# Altium schematic symbol library IC.SchLib: 89 symbols
Pins are listed as number, name and electrical type; pins without a type are passive.

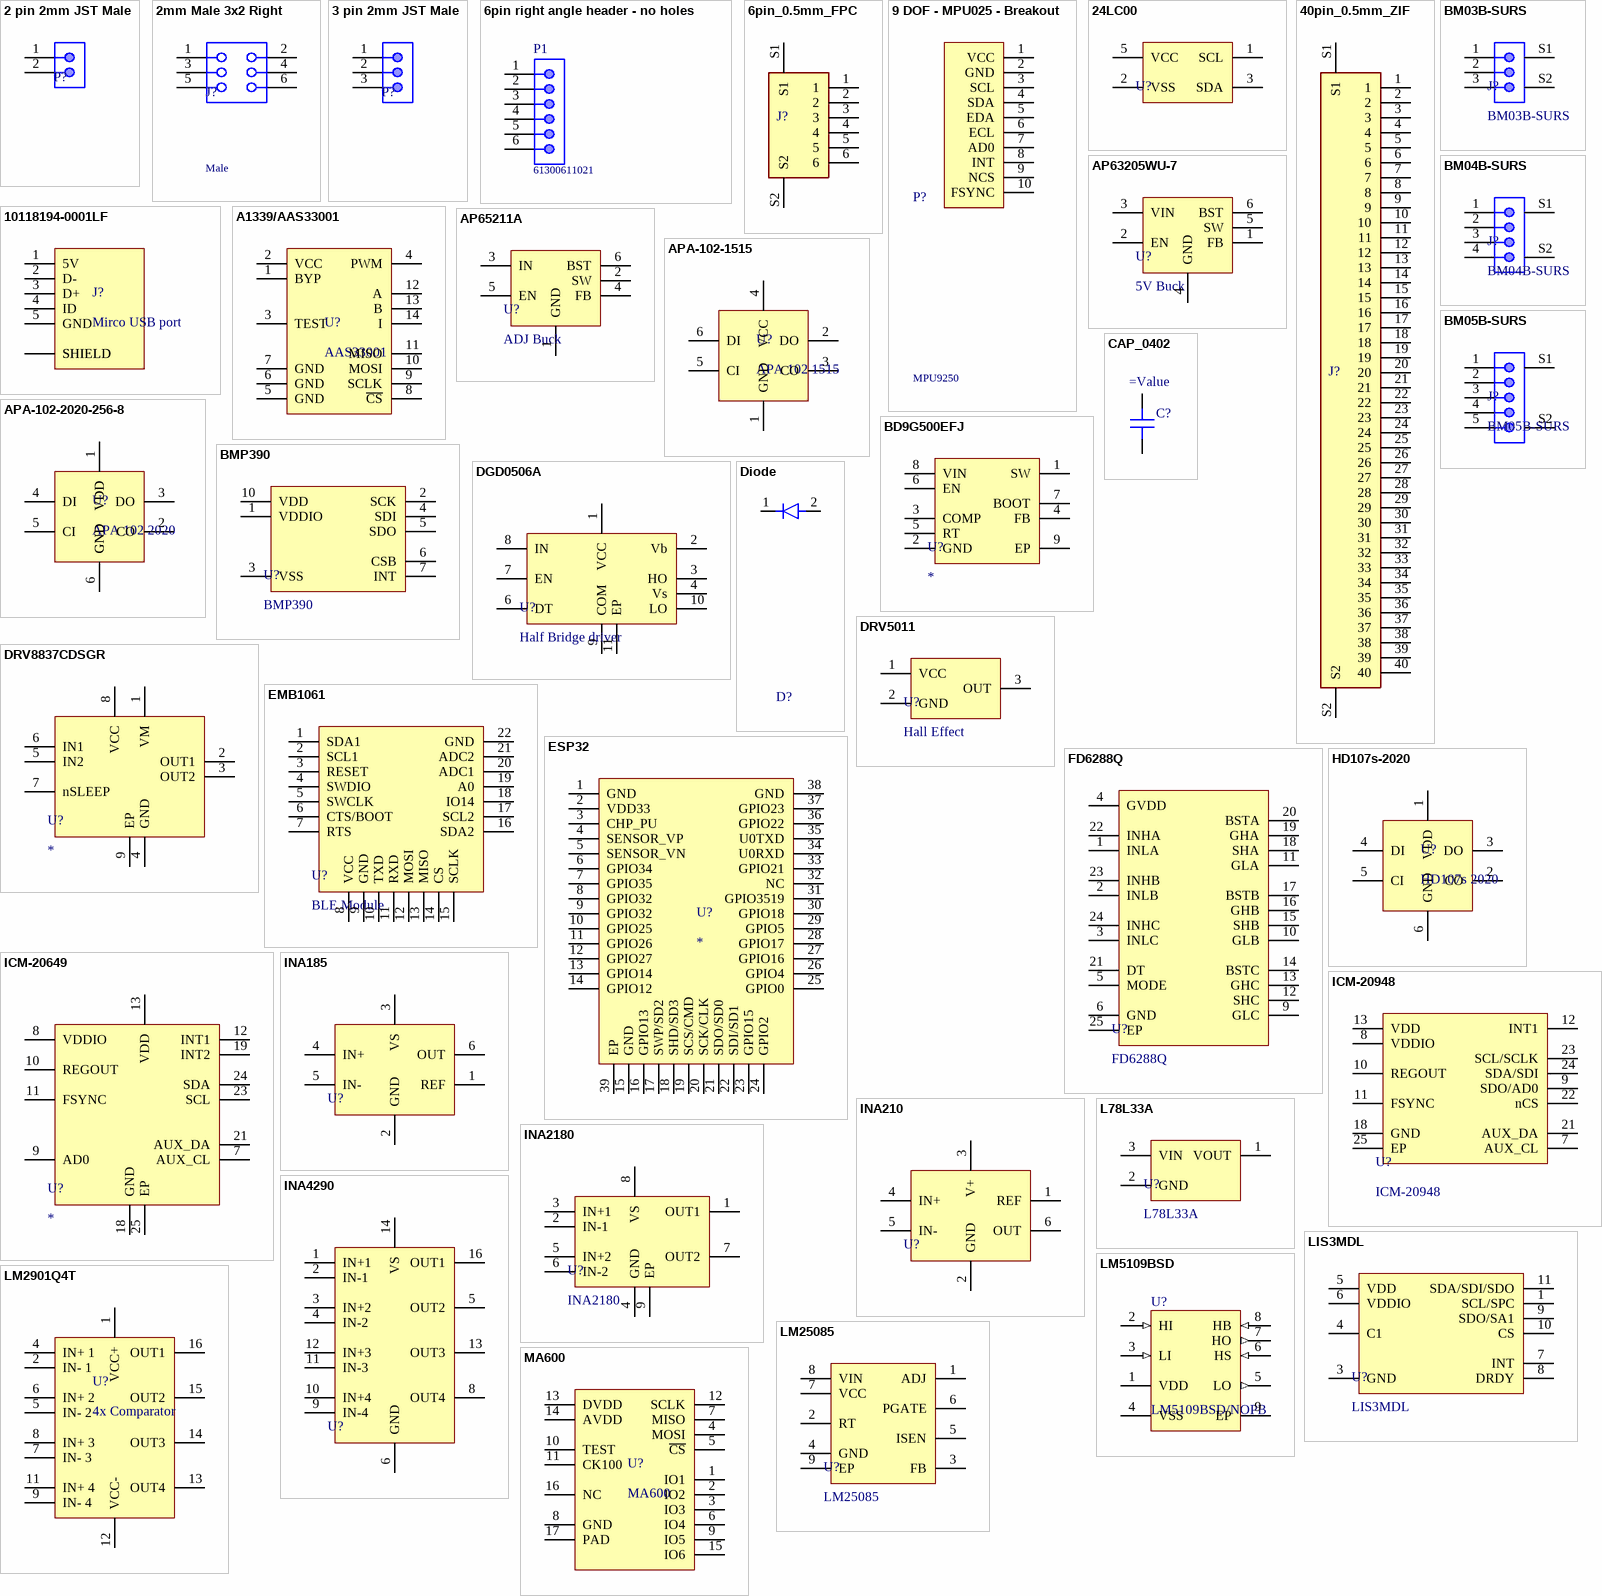
[diagram p0: symbols 2 pin 2mm JST Male to MA600]

## 2 pin 2mm JST Male
designator P?
2 Pin - 2mm header - clip
footprint 2pin - 2mm JST male
pins: 1, 2

## 2mm Male 3x2 Right
designator J?, comment Male
2mm Male 3x2 Right; Manufacturer Part Number: 62000621821; Manufacturer: Wurth Elektronik; Pin Number: 6; Gender: Socket Header; Rated Current: 2A; Working Voltage: 250VAC; Withstanding Voltage: 500VAC; Contact Resistance: 20mOhm; Row Number: Dual; ComponentLink1Description: Manufacturer; ComponentLink1URL: http://www.we-online.de; ComponentLink2Description: Datasheet; ComponentLink2URL: https://www.we-online.com/catalog/datasheet/62000621821.pdf; Published Date: May 2020; Pitch: 2mm; Operating Temperature: -40 to +105degC; Mounting Technology: THT; Packaging: Tube; Orientation: Vertical
footprint 2mm 3x2 Male Right (Socket Header, Pitch 2.00 mm, THT, Vertical, dual row, 6p)
pins: 1, 2, 3, 4, 5, 6

## 3 pin 2mm JST Male
designator P?
2 Pin - 3mm header - clip
footprint 3pin - 2mm header
pins: 1, 2, 3

## 6pin right angle header - no holes
designator P1, comment 61300611021
WR-PHD Pin Header, THT, pitch 2.54mm, Single Row, Angled, 6p; Manufacturer: Wurth Elektronik; Pin Number: 6; Rated Current: 3A; Working Voltage: 250VAC; Withstanding Voltage: 500VAC; Contact Resistance: 20mOhm; ComponentLink1Description: Manufacturer; ComponentLink1URL: http://www.we-online.de; ComponentLink2Description: Datasheet; ComponentLink2URL: https://www.we-online.com/catalog/datasheet/61300611021.pdf; Manufacturer Part Number: 61300611021; Published Date: May 2020; Pitch: 2.54mm; Operating Temperature: -40 to +105degC; Mounting Technology: THT; Packaging: Bag; Gender: Pin Header; Row Number: Single; Orientation: Angled
footprint 61300611021 (Pin Header, pitch 2.54 mm, THT, Angled, single row, 6p)
pins: 1, 2, 3, 4, 5, 6

## 6pin_0.5mm_FPC
designator J?
6 Position FFC, FPC Connector Contacts, Top 0.020 _0.50mm_ Surface Mount, Right Angle; MP: FH12A-40S-0.5SH_55_; MF: Hirose; Price: None; SnapEDA_Link: https://www.snapeda.com/parts/FH12A-40S-0.5SH%2855%29/Hirose%20Electric%20Co%20Ltd/view-part/447132/?ref=snap; Package: None; Availability: Unavailable; Value: *
footprint 6pin_0.5mmPitch
pins: 1, 2, 3, 4, 5, 6, S1, S2

## 9 DOF - MPU025 - Breakout
designator P?, comment MPU9250
9 DOF - MPU025- Breakout; Manufacturer Part Number: 61301011121; Manufacturer: Wurth Elektronik; Pin Number: 10; Pitch: 2.54mm; Gender: Pin Header; Rated Current: 3A; Working Voltage: 250VAC; Withstanding Voltage: 500VAC; Contact Resistance: 20mOhm; Row Number: Single; ComponentLink1Description: Manufacturer; ComponentLink1URL: http://www.we-online.de; ComponentLink2Description: Datasheet; ComponentLink2URL: https://www.we-online.com/catalog/datasheet/61301011121.pdf; Published Date: May 2020; Operating Temperature: -40 to +105degC; Mounting Technology: THT; Packaging: Bag; Orientation: Vertical
footprint MPU 9150 - 10 pin 0.1" (Pin Header, pitch 2.54 mm, THT, Vertical, single row, 10p)
pins: 1 VCC, 2 GND, 3 SCL, 4 SDA, 5 EDA, 6 ECL, 7 AD0, 8 INT, 9 NCS, 10 FSYNC

## 24LC00
designator U?
EEPROM
footprint SOT-23-5
pins: 1 SCL, 2 VSS, 3 SDA, 5 VCC

## 40pin_0.5mm_ZIF
designator J?
40 Position FFC, FPC Connector Contacts, Top 0.020 _0.50mm_ Surface Mount, Right Angle; MP: FH12A-40S-0.5SH_55_; MF: Hirose; Price: None; SnapEDA_Link: https://www.snapeda.com/parts/FH12A-40S-0.5SH%2855%29/Hirose%20Electric%20Co%20Ltd/view-part/447132/?ref=snap; Package: None; Availability: Unavailable; Value: *
footprint 40pin_0.5mmPitch
pins: 1, 2, 3, 4, 5, 6, 7, 8, 9, 10, 11, 12, 13, 14, 15, 16, 17, 18, 19, 20, 21, 22, 23, 24, 25, 26, 27, 28, 29, 30, 31, 32, 33, 34, 35, 36, 37, 38, 39, 40, S1, S2

## 10118194-0001LF
designator J?, comment Mirco USB port
USB - micro B USB 2.0 Receptacle Connector 5 Position Surface Mount, Right Angle; Through Hole; MF: Amphenol ICC; MP: 10118194-0001LF; Package: None; Price: None; Availability: Unavailable; SnapEDA_Link: https://www.snapeda.com/parts/10118194-0001LF/Amphenol%20FCI/view-part/1413308/?ref=snap; Value: *
footprint AMPHENOL_10118194-0001LF
pins: 1 5V, 2 D-, 3 D+, 4 ID, 5 GND, S1 SHIELD, S2 SHIELD, S3 SHIELD, S4 SHIELD, S5 SHIELD, S6 SHIELD

## A1339/AAS33001
designator U?, comment AAS33001
Hall effect encoder
footprint TSSOP14
pins: 1 BYP, 2 VCC, 3 TEST, 4 PWM, 5 GND, 6 GND, 7 GND, 8 ~{CS}, 9 SCLK, 10 MOSI, 11 MISO, 12 A, 13 B, 14 I

## AP63205WU-7
designator U?, comment 5V Buck
5V fixed step down Buck
footprint TSOT-26-6 - 3.2mm
pins: 1 FB, 2 EN, 3 VIN, 4 GND, 5 SW, 6 BST

## AP65211A
designator U?, comment ADJ Buck
ADJ step down Buck
footprint TSOT-26-6
pins: 1 GND, 2 SW, 3 IN, 4 FB, 5 EN, 6 BST

## APA-102-1515
designator U?, comment APA 102 1515
8-pin type LED three-color RGB Dimming control; MP: APA-102-2020-256-8; MF: iPixel LED Light Co.; Value: *; SnapEDA_Link: https://www.snapeda.com/parts/APA-102-2020-256-8/iPixel%20LED%20Light%20Co./view-part/698331/?ref=snap; Availability: Unavailable; Package: SMD-8 iPixel LED Light Co.; Price: None
footprint LED_APA-102-1515
pins: 1 GND, 2 DO, 3 CO, 4 VCC, 5 CI, 6 DI

## APA-102-2020-256-8
designator U?, comment APA 102 2020
8-pin type LED three-color RGB Dimming control; MP: APA-102-2020-256-8; MF: iPixel LED Light Co.; Value: *; SnapEDA_Link: https://www.snapeda.com/parts/APA-102-2020-256-8/iPixel%20LED%20Light%20Co./view-part/698331/?ref=snap; Availability: Unavailable; Package: SMD-8 iPixel LED Light Co.; Price: None
footprint LED_APA-102-2020-256-8
pins: 1 VDD (power), 2 CO, 3 DO, 4 DI, 5 CI, 6 GND (power), 7 GND (power), 8 VDD (power)

## BD9G500EFJ
designator U?
Buck Adj, 5A
footprint SOP127P600X100-9N
pins: 1 SW, 2 GND, 3 COMP, 4 FB, 5 RT, 6 EN, 7 BOOT, 8 VIN, 9 EP

## BM03B-SURS
designator J?
3 pos 0.8mm
footprint BM03B-SURS
pins: 1, 2, 3 1, S1 1, S2 2

## BM04B-SURS
designator J?
4 pos 0.8mm
footprint BM04B-SURS
pins: 1, 2, 3 1, 4 2, S1 1, S2 2

## BM05B-SURS
designator J?
5 pos 0.8mm
footprint BM05B-SURS
pins: 1, 2, 3 1, 4 2, 5 2, S1 1, S2 2

## BMP390
designator U?
Altimeter
footprint BMP390L
pins: 1 VDDIO, 2 SCK, 3 VSS, 4 SDI, 5 SDO, 6 CSB, 7 INT, 8 VSS, 9 VSS, 10 VDD

## CAP_0402
designator C?
CAP CER 402
footprint CAP_0402
pins: 1, 2

## DGD0506A
designator U?, comment Half Bridge driver
Half Bridge driver - N FET
footprint 10-WDFN3030
pins: 1 VCC, 2 Vb, 3 HO, 4 Vs, 6 DT, 7 EN, 8 IN, 9 COM, 10 LO, 11 EP

## Diode
designator D?
DFN1608D-2 (SOD1608); Manufacturer: Cree; ComponentLink2Description: Datasheet; Temperature: -40°C to +100°C; Package: LED_3MM2X2MM8; Supplier 2: Mouser; Price: 0.203999996142; Supplier 1: Digi-Key; ComponentLink1URL: https://upverter.com/upn/revision/9d0b31f7b1982705/; Supplier Part Number 2: 941-CLV1LFKBC7673673; Supplier Part Number 1: CLV1L-FKB-CHMMQEHBB7673673-ND; ComponentLink1Description: Upverter; ComponentLink2URL: http://www.cree.com/~/media/Files/Cree/LED-Components-and-Modules/HB/Data-Sheets/CLV1L-FKB-1238.pdf; RoHS: TRUE; Mouser Part Number: 941-CLV1LFKBC7673673; Temperature Range High: +100°C; Digikey Description: DIODE LED RGB DIFFUSED 4LCC SMD; Digikey Part Number: CLV1L-FKB-CHMMQEHBB7673673-ND; Lead Free: yes; Temperature Range Low: -40°C
footprint Diode DFN1608D-2 (SOD1608)
pins: 1 A, 2 BLUE(C)

## DRV5011
designator U?, comment Hall Effect
Hall Effect Sensor - Bipolar
footprint DRV5011ADLPG
pins: 1 VCC, 2 GND, 3 OUT

## DRV8837CDSGR
designator U?
11-V, 1-A H-bridge motor driver 8-WSON -40 to 85; MF: Texas Instruments; MP: DRV8837CDSGR; Mouser-Purchase-URL: https://snapeda.com/shop?store=Mouser&id=617854; Value: *; DigiKey-Purchase-URL: https://snapeda.com/shop?store=DigiKey&id=617854; Package: WSON-8 Texas Instruments; Texas_Instruments-Purchase-URL: https://snapeda.com/shop?store=Texas+Instruments&id=617854; Price: None; SnapEDA_Link: https://www.snapeda.com/parts/DRV8837CDSGR/Texas%20Instruments/view-part/617854/?ref=snap; Availability: Good
footprint SON50P200X200X80-9N
pins: 1 VM, 2 OUT1, 3 OUT2, 4 GND, 5 IN2, 6 IN1, 7 nSLEEP, 8 VCC, 9 EP

## EMB1061
designator U?, comment BLE Module
EMB1061 - BLE module
footprint EMB1061 -SMT
pins: 1 SDA1, 2 SCL1, 3 RESET, 4 SWDIO, 5 SWCLK, 6 CTS/BOOT, 7 RTS, 8 VCC, 9 GND, 10 TXD, 11 RXD, 12 MOSI, 13 MISO, 14 CS, 15 SCLK, 16 SDA2, 17 SCL2, 18 IO14, 19 A0, 20 ADC1, 21 ADC2, 22 GND

## ESP32
designator U?
ESP32
footprint Espressif ESP32-WROOM-32 (39-SMD Module)
pins: 1 GND, 2 VDD33, 3 CHP_PU, 4 SENSOR_VP, 5 SENSOR_VN, 6 GPIO34, 7 GPIO35, 8 GPIO32, 9 GPIO32, 10 GPIO25, 11 GPIO26, 12 GPIO27, 13 GPIO14, 14 GPIO12, 15 GND, 16 GPIO13, 17 SWP/SD2, 18 SHD/SD3, 19 SCS/CMD, 20 SCK/CLK, 21 SDO/SD0, 22 SDI/SD1, 23 GPIO15, 24 GPIO2, 25 GPIO0, 26 GPIO4, 27 GPIO16, 28 GPIO17, 29 GPIO5, 30 GPIO18, 31 GPIO3519, 32 NC, 33 GPIO21, 34 U0RXD, 35 U0TXD, 36 GPIO22, 37 GPIO23, 38 GND, 39 EP

## FD6288Q
designator U?
3 Phase Gate Driver 1.5-2.2A; MF: Texas Instruments; MP: UCC27282DRCR; Texas_Instruments-Purchase-URL: https://snapeda.com/shop?store=Texas+Instruments&id=3625400; Price: None; Availability: Warning; Package: VSON-10 Texas Instruments; SnapEDA_Link: https://www.snapeda.com/parts/UCC27282DRCR/Texas%20Instruments/view-part/3625400/?ref=snap; DigiKey-Purchase-URL: https://snapeda.com/shop?store=DigiKey&id=3625400; Value: *
footprint QFN50P400X400X100-25N
pins: 1 INLA, 2 INLB, 3 INLC, 4 GVDD, 5 MODE, 6 GND, 9 GLC, 10 GLB, 11 GLA, 12 SHC, 13 GHC, 14 BSTC, 15 SHB, 16 GHB, 17 BSTB, 18 SHA, 19 GHA, 20 BSTA, 21 DT, 22 INHA, 23 INHB, 24 INHC, 25 EP

## HD107s-2020
designator U?, comment HD107s 2020
8-pin type LED three-color RGB Dimming control; MP: APA-102-2020-256-8; MF: iPixel LED Light Co.; Value: *; SnapEDA_Link: https://www.snapeda.com/parts/APA-102-2020-256-8/iPixel%20LED%20Light%20Co./view-part/698331/?ref=snap; Availability: Unavailable; Package: SMD-8 iPixel LED Light Co.; Price: None
footprint LED_HD107s-2020
pins: 1 VDD (power), 2 CO, 3 DO, 4 DI, 5 CI, 6 GND (power)

## ICM-20649
designator U?
6-DOF IMU
footprint ICM-20649
pins: 7 AUX_CL, 8 VDDIO, 9 AD0, 10 REGOUT, 11 FSYNC, 12 INT1, 13 VDD, 18 GND, 19 INT2, 20 RESV, 21 AUX_DA, 23 SCL, 24 SDA, 25 EP

## ICM-20948
designator U?
9-DOF IMU
footprint ICM-20948
pins: 7 AUX_CL, 8 VDDIO, 9 SDO/AD0, 10 REGOUT, 11 FSYNC, 12 INT1, 13 VDD, 18 GND, 20 GND, 21 AUX_DA, 22 nCS, 23 SCL/SCLK, 24 SDA/SDI, 25 EP

## INA185
designator U?
INA185A2
footprint TI SC70-6 DCK (SC70, 6-Leads, Body 2.00x2.10mm, Pitch 0.65mm, IPC Medium Density)
pins: 1 REF, 2 GND, 3 VS, 4 IN+, 5 IN-, 6 OUT

## INA210
designator U?
Current sense amplifier
footprint TI SC70-6 DCK (SC70, 6-Leads, Body 2.00x2.10mm, Pitch 0.65mm, IPC Medium Density)
pins: 1 REF, 2 GND, 3 V+, 4 IN+, 5 IN-, 6 OUT

## INA2180
designator U?
Current sense amplifier 2 channel
footprint SON50P200X200X80-9N
pins: 1 OUT1, 2 IN-1, 3 IN+1, 4 GND, 5 IN+2, 6 IN-2, 7 OUT2, 8 VS, 9 EP

## INA4290
designator U?
Current sense amplifier 4 channel
footprint VQFN50P300X300X100-16N
pins: 1 IN+1, 2 IN-1, 3 IN+2, 4 IN-2, 5 OUT2, 6 GND, 7 GND, 8 OUT4, 9 IN-4, 10 IN+4, 11 IN-3, 12 IN+3, 13 OUT3, 14 VS, 15 VS, 16 OUT1

## L78L33A
designator U?
3.3V LDO
footprint SOT-89-3
pins: 1 VOUT "Desc1", 2 GND "Desc1", 3 VIN "Desc1"

## LIS3MDL
designator U?
Magnetometer
footprint LGA12_ST
pins: 1 SCL/SPC, 2 Reserved, 3 GND, 4 C1, 5 VDD, 6 VDDIO, 7 INT, 8 DRDY, 9 SDO/SA1, 10 CS, 11 SDA/SDI/SDO, 12 Reserved

## LM2901Q4T
designator U?, comment 4x Comparator
Comparator General Purpose CMOS, DTL, MOS, Open-Collector, TTL 16-QFN (3x3)
footprint QFN50P300X300X100-16N
pins: 1 VCC+, 2 IN- 1, 4 IN+ 1, 5 IN- 2, 6 IN+ 2, 7 IN- 3, 8 IN+ 3, 9 IN- 4, 11 IN+ 4, 12 VCC-, 13 OUT4, 14 OUT3, 15 OUT2, 16 OUT1

## LM5109BSD
designator U?, comment LM5109BSD/NOPB
High Voltage 1A Peak Half-Bridge Gate Driver, 8-pin LLP, Pb-Free; Manufacturer: Texas Instruments; PackageTopMarking: NS*UZXYTT*5109BSD; CompType: MiscPower; PowerWise: N; PackageDescription: LLP, Plastic, Dual, 4 x 4 x 0.8mm Body, 8 Lead, 0.8mm Pitch, No Pullback; PinCount: 8; RoHS: Y; PackageReference: NGT0008A; ComponentLink1URL: http://www.ti.com/general/docs/lit/getliterature.tsp?genericPartNumber=LM5109B&fileType=pdf; ComponentLink1Description: Datasheet URL
footprint 8-WDFN
pins: 1 VDD (power), 2 HI (in), 3 LI (in), 4 VSS (power), 5 LO (out), 6 HS (in), 7 HO (out), 8 HB (in), 9 EP (power)

## LM25085
designator U?
PFET Buck Controller
footprint 8-WSON_3x3_0.5mm
pins: 1 ADJ, 2 RT, 3 FB, 4 GND, 5 ISEN, 6 PGATE, 7 VCC, 8 VIN, 9 EP

## MA600
designator U?
Hall effect encoder
footprint IC_MA702GQ-Z
pins: 1 IO1, 2 IO2, 3 IO3, 4 MOSI, 5 ~{CS}, 6 IO4, 7 MISO, 8 GND, 9 IO5, 10 TEST, 11 CK100, 12 SCLK, 13 DVDD, 14 AVDD, 15 IO6, 16 NC, 17 PAD

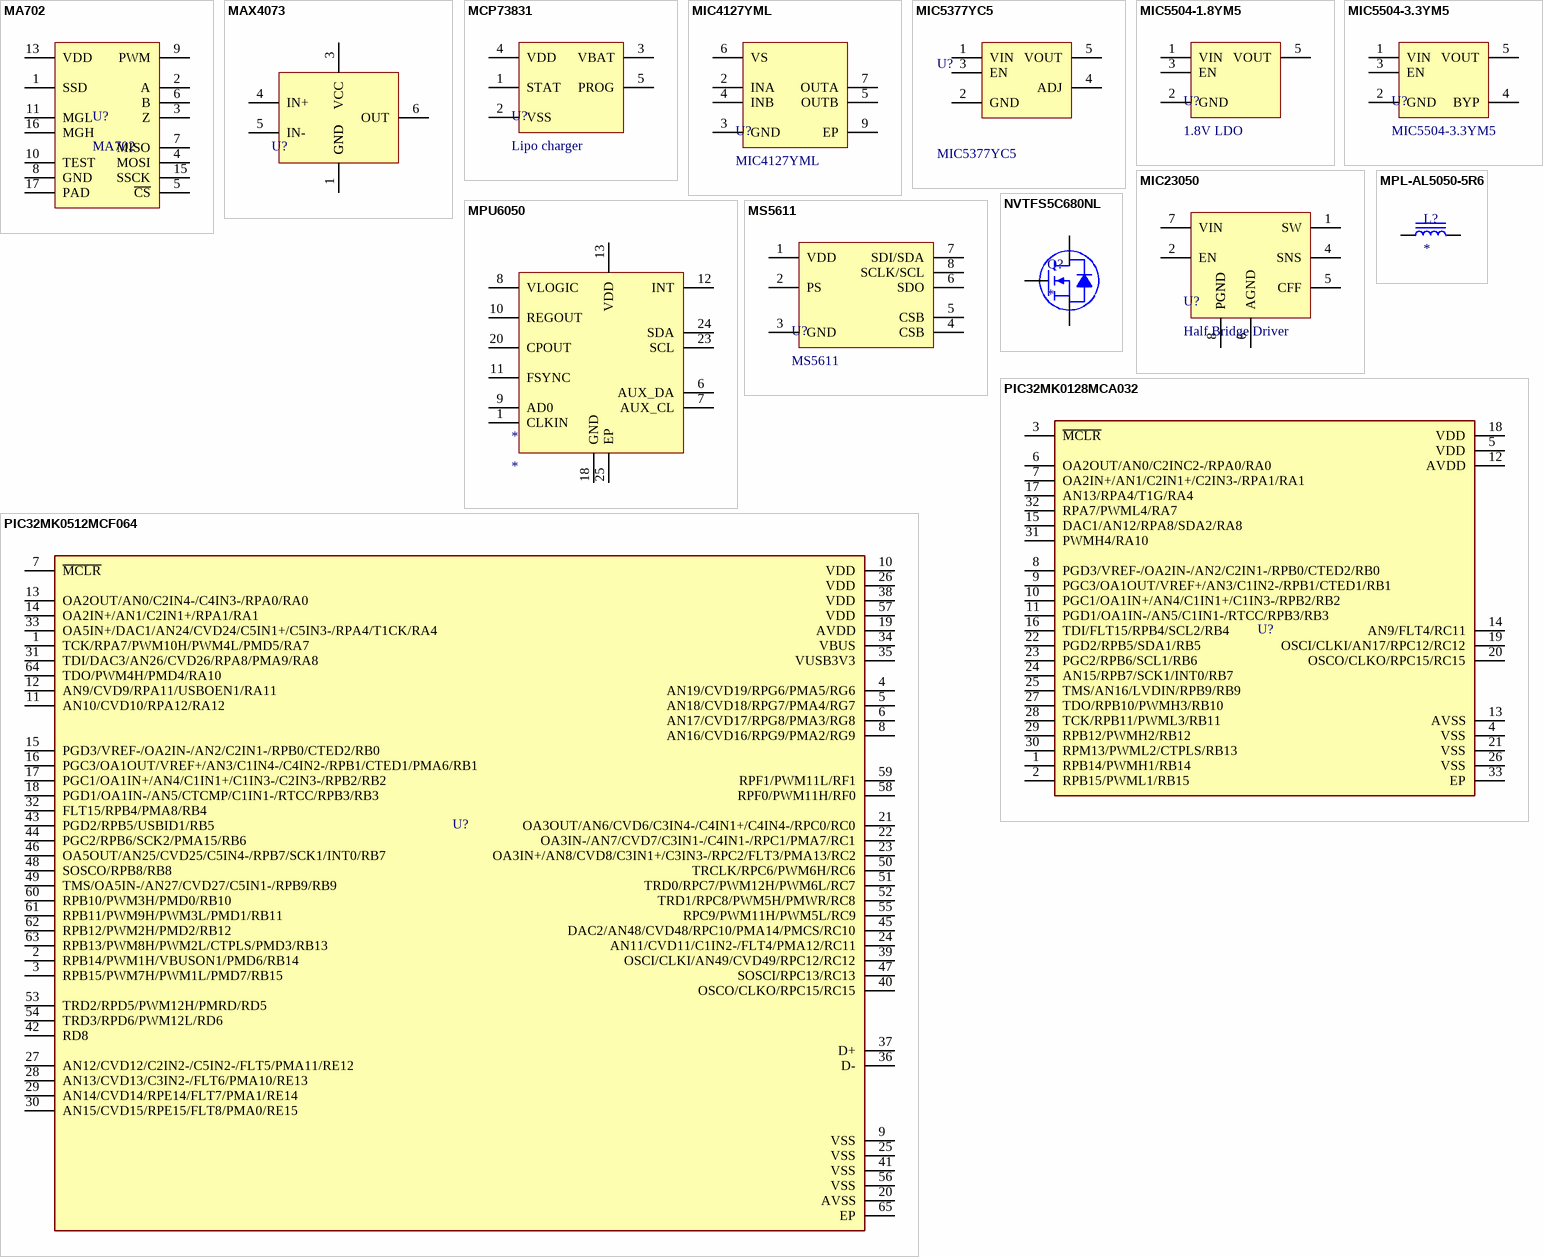
[diagram p1: symbols MA702 to PIC32MK0512MCF064]

## MA702
designator U?
Hall effect encoder
footprint IC_MA702GQ-Z
pins: 1 SSD, 2 A, 3 Z, 4 MOSI, 5 ~{CS}, 6 B, 7 MISO, 8 GND, 9 PWM, 10 TEST, 11 MGL, 13 VDD, 15 SSCK, 16 MGH, 17 PAD

## MAX4073
designator U?
Current sense amplifier
footprint TI SC70-6 DCK (SC70, 6-Leads, Body 2.00x2.10mm, Pitch 0.65mm, IPC Medium Density)
pins: 1 GND, 2 GND, 3 VCC, 4 IN+, 5 IN-, 6 OUT

## MCP73831
designator U?, comment Lipo charger
footprint TI SOT-23-5 DBV (SOT23, 5-Leads, Body 2.90x2.80mm, Pitch 0.95mm, IPC Medium Density)
pins: 1 STAT, 2 VSS, 3 VBAT, 4 VDD, 5 PROG

## MIC4127YML
designator U?
Low side Gate Driver 2x
footprint VDFN-8 3x3x0.9
pins: 2 INA, 3 GND, 4 INB, 5 OUTB, 6 VS, 7 OUTA, 9 EP

## MIC5377YC5
designator U?
IC REG LIN POS ADJ 150MA SOT23-5; Manufacturer: Texas Instruments; Control Features: Enable; Current - Quiescent (Iq): 100µA; Current - Supply (Max): 140µA; Number of Regulators: 1; Output Configuration: Positive; Output Type: Adjustable; Protection Features: Over Current, Over Temperature, Reverse Polarity; PSRR: 60dB (1kHz); Voltage - Input (Max): 10V; Voltage - Output (Max): 6.5V; Voltage - Output (Min/Fixed): 1.5V; Part Number: MIC5377YC5; ComponentLink1Description: Datasheet; ComponentLink1URL: http://www.ti.com/general/docs/suppproductinfo.tsp?distId=10&gotoUrl=http%3A%2F%2Fwww.ti.com%2Flit%2Fgpn%2Ftps763; ComponentLink2Description: DigiKey Link; ComponentLink2URL: http://digikey.com/product-detail/en/texas-instruments/TPS76301DBVR/296-11014-1-ND/477331; Current - Output: 150mA; Device Package: SC-74A, SOT-753; LastUpdated: 18-Jan-20 8:02:45 PM; Lifecycle Status: Active; Minimum Order: 1; Mounting Type: Surface Mount; Operating Temperature: -40°C ~ 125°C; Package / Case: SC-74A, SOT-753; Packaging: TapeAndReel; Part Status: Active; Price: 0.33; Series: -; Supplier 1: DigiKey; Supplier Part Number 1: 296-11014-1-ND; Supplier Device Package: SOT-23-5
footprint TI SOT-23-5 DBV
footprint 5 pin SC-70
pins: 1 VIN "Desc1", 2 GND "Desc1", 3 EN "Desc1", 4 ADJ "Desc1", 5 VOUT "Desc1"

## MIC5504-1.8YM5
designator U?, comment 1.8V LDO
footprint TI SOT-23-5 DBV (SOT23, 5-Leads, Body 2.90x2.80mm, Pitch 0.95mm, IPC Medium Density)
pins: 1 VIN "Desc1", 2 GND "Desc1", 3 EN "Desc1", 5 VOUT "Desc1"

## MIC5504-3.3YM5
designator U?
3.3V LDO
footprint TI SOT-23-5 DBV (SOT23, 5-Leads, Body 2.90x2.80mm, Pitch 0.95mm, IPC Medium Density)
pins: 1 VIN "Desc1", 2 GND "Desc1", 3 EN "Desc1", 4 BYP "Desc1", 5 VOUT "Desc1"

## MIC23050
designator U?, comment Half Bridge Driver
footprint MLF-8 2x2mm
pins: 1 SW, 2 EN, 4 SNS, 5 CFF, 6 AGND, 7 VIN, 8 PGND, 9 PGND

## MPL-AL5050-5R6
designator L?
FIXED IND 5.6UH 6.8A 20 MOHM SMD; MF: Laird-Signal Integrity Products; MP: MGV05021R0M-10; SnapEDA_Link: https://www.snapeda.com/parts/MGV05021R0M-10/Laird/view-part/5881352/?ref=snap; Availability: In Stock; Purchase-URL: https://pricing.snapeda.com/search/part/MGV05021R0M-10/?ref=eda; Check_prices: https://www.snapeda.com/parts/MGV05021R0M-10/Laird/view-part/5881352/?ref=eda; Value: *; Package: Molded-2 Laird; Price: None
footprint MPL-AL5050-5R6
pins: 1, 2

## MPU6050
designator *
6-DOF IMU
footprint IC_MPU6050
pins: 1 CLKIN, 6 AUX_DA, 7 AUX_CL, 8 VLOGIC, 9 AD0, 10 REGOUT, 11 FSYNC, 12 INT, 13 VDD, 18 GND, 20 CPOUT, 23 SCL, 24 SDA, 25 EP

## MS5611
designator U?
Altimeter
footprint MS5611 - duplicate
pins: 1 VDD, 2 PS, 3 GND, 4 CSB, 5 CSB, 6 SDO, 7 SDI/SDA, 8 SCLK/SCL

## NVTFS5C680NL
designator Q?
N-FET
footprint NVTFS015N04CTAG
pins: 1 S, 2 S, 3 S, 4 G, 5 D, 6 D, 7 D, 8 D

## PIC32MK0128MCA032
designator U?
PIC32MK Microcontroller IC 32-Bit 120MHz 1MB _1M x 8_ FLASH 32-VQFN_5x5_; MP: PIC32MK1024MCF064-I/PT; MF: Microchip; Digi-Key_Purchase_URL: https://www.digikey.kr/product-detail/en/microchip-technology/PIC32MK1024MCF064-I-PT/PIC32MK1024MCF064-I-PT-ND/7164902?utm_source=snapeda&utm_medium=aggregator&utm_campaign=symbol; Package: TQFP-64 Microchip; Digi-Key_Part_Number: PIC32MK1024MCF064-I/PT-ND; Value: *; SnapEDA_Link: https://www.snapeda.com/parts/PIC32MK1024MCF064-I/PT/Microchip/view-part/876704/?ref=snap
footprint 32-QFN_5x5_PIC32
pins: 1 RPB14/PWMH1/RB14, 2 RPB15/PWML1/RB15, 3 ~{MCLR}, 4 VSS, 5 VDD, 6 OA2OUT/AN0/C2INC2-/RPA0/RA0, 7 OA2IN+/AN1/C2IN1+/C2IN3-/RPA1/RA1, 8 PGD3/VREF-/OA2IN-/AN2/C2IN1-/RPB0/CTED2/RB0, 9 PGC3/OA1OUT/VREF+/AN3/C1IN2-/RPB1/CTED1/RB1, 10 PGC1/OA1IN+/AN4/C1IN1+/C1IN3-/RPB2/RB2, 11 PGD1/OA1IN-/AN5/C1IN1-/RTCC/RPB3/RB3, 12 AVDD, 13 AVSS, 14 AN9/FLT4/RC11, 15 DAC1/AN12/RPA8/SDA2/RA8, 16 TDI/FLT15/RPB4/SCL2/RB4, 17 AN13/RPA4/T1G/RA4, 18 VDD, 19 OSCI/CLKI/AN17/RPC12/RC12, 20 OSCO/CLKO/RPC15/RC15, 21 VSS, 22 PGD2/RPB5/SDA1/RB5, 23 PGC2/RPB6/SCL1/RB6, 24 AN15/RPB7/SCK1/INT0/RB7, 25 TMS/AN16/LVDIN/RPB9/RB9, 26 VSS, 27 TDO/RPB10/PWMH3/RB10, 28 TCK/RPB11/PWML3/RB11, 29 RPB12/PWMH2/RB12, 30 RPM13/PWML2/CTPLS/RB13, 31 PWMH4/RA10, 32 RPA7/PWML4/RA7, 33 EP

## PIC32MK0512MCF064
designator U?
PIC32MK Microcontroller IC 32-Bit 120MHz 1MB _1M x 8_ FLASH 64-TQFP _10x10_; MP: PIC32MK1024MCF064-I/PT; MF: Microchip; Digi-Key_Purchase_URL: https://www.digikey.kr/product-detail/en/microchip-technology/PIC32MK1024MCF064-I-PT/PIC32MK1024MCF064-I-PT-ND/7164902?utm_source=snapeda&utm_medium=aggregator&utm_campaign=symbol; Package: TQFP-64 Microchip; Digi-Key_Part_Number: PIC32MK1024MCF064-I/PT-ND; Value: *; SnapEDA_Link: https://www.snapeda.com/parts/PIC32MK1024MCF064-I/PT/Microchip/view-part/876704/?ref=snap
footprint QFN50P900X900X100-65N
pins: 1 TCK/RPA7/PWM10H/PWM4L/PMD5/RA7, 2 RPB14/PWM1H/VBUSON1/PMD6/RB14, 3 RPB15/PWM7H/PWM1L/PMD7/RB15, 4 AN19/CVD19/RPG6/PMA5/RG6, 5 AN18/CVD18/RPG7/PMA4/RG7, 6 AN17/CVD17/RPG8/PMA3/RG8, 7 ~{MCLR}, 8 AN16/CVD16/RPG9/PMA2/RG9, 9 VSS, 10 VDD, 11 AN10/CVD10/RPA12/RA12, 12 AN9/CVD9/RPA11/USBOEN1/RA11, 13 OA2OUT/AN0/C2IN4-/C4IN3-/RPA0/RA0, 14 OA2IN+/AN1/C2IN1+/RPA1/RA1, 15 PGD3/VREF-/OA2IN-/AN2/C2IN1-/RPB0/CTED2/RB0, 16 PGC3/OA1OUT/VREF+/AN3/C1IN4-/C4IN2-/RPB1/CTED1/PMA6/RB1, 17 PGC1/OA1IN+/AN4/C1IN1+/C1IN3-/C2IN3-/RPB2/RB2, 18 PGD1/OA1IN-/AN5/CTCMP/C1IN1-/RTCC/RPB3/RB3, 19 AVDD, 20 AVSS, 21 OA3OUT/AN6/CVD6/C3IN4-/C4IN1+/C4IN4-/RPC0/RC0, 22 OA3IN-/AN7/CVD7/C3IN1-/C4IN1-/RPC1/PMA7/RC1, 23 OA3IN+/AN8/CVD8/C3IN1+/C3IN3-/RPC2/FLT3/PMA13/RC2, 24 AN11/CVD11/C1IN2-/FLT4/PMA12/RC11, 25 VSS, 26 VDD, 27 AN12/CVD12/C2IN2-/C5IN2-/FLT5/PMA11/RE12, 28 AN13/CVD13/C3IN2-/FLT6/PMA10/RE13, 29 AN14/CVD14/RPE14/FLT7/PMA1/RE14, 30 AN15/CVD15/RPE15/FLT8/PMA0/RE15, 31 TDI/DAC3/AN26/CVD26/RPA8/PMA9/RA8, 32 FLT15/RPB4/PMA8/RB4, 33 OA5IN+/DAC1/AN24/CVD24/C5IN1+/C5IN3-/RPA4/T1CK/RA4, 34 VBUS, 35 VUSB3V3, 36 D-, 37 D+, 38 VDD, 39 OSCI/CLKI/AN49/CVD49/RPC12/RC12, 40 OSCO/CLKO/RPC15/RC15, 41 VSS, 42 RD8, 43 PGD2/RPB5/USBID1/RB5, 44 PGC2/RPB6/SCK2/PMA15/RB6, 45 DAC2/AN48/CVD48/RPC10/PMA14/PMCS/RC10, 46 OA5OUT/AN25/CVD25/C5IN4-/RPB7/SCK1/INT0/RB7, 47 SOSCI/RPC13/RC13, 48 SOSCO/RPB8/RB8, 49 TMS/OA5IN-/AN27/CVD27/C5IN1-/RPB9/RB9, 50 TRCLK/RPC6/PWM6H/RC6, 51 TRD0/RPC7/PWM12H/PWM6L/RC7, 52 TRD1/RPC8/PWM5H/PMWR/RC8, 53 TRD2/RPD5/PWM12H/PMRD/RD5, 54 TRD3/RPD6/PWM12L/RD6, 55 RPC9/PWM11H/PWM5L/RC9, 56 VSS, 57 VDD, 58 RPF0/PWM11H/RF0, 59 RPF1/PWM11L/RF1, 60 RPB10/PWM3H/PMD0/RB10, 61 RPB11/PWM9H/PWM3L/PMD1/RB11, 62 RPB12/PWM2H/PMD2/RB12, 63 RPB13/PWM8H/PWM2L/CTPLS/PMD3/RB13, 64 TDO/PWM4H/PMD4/RA10, 65 EP

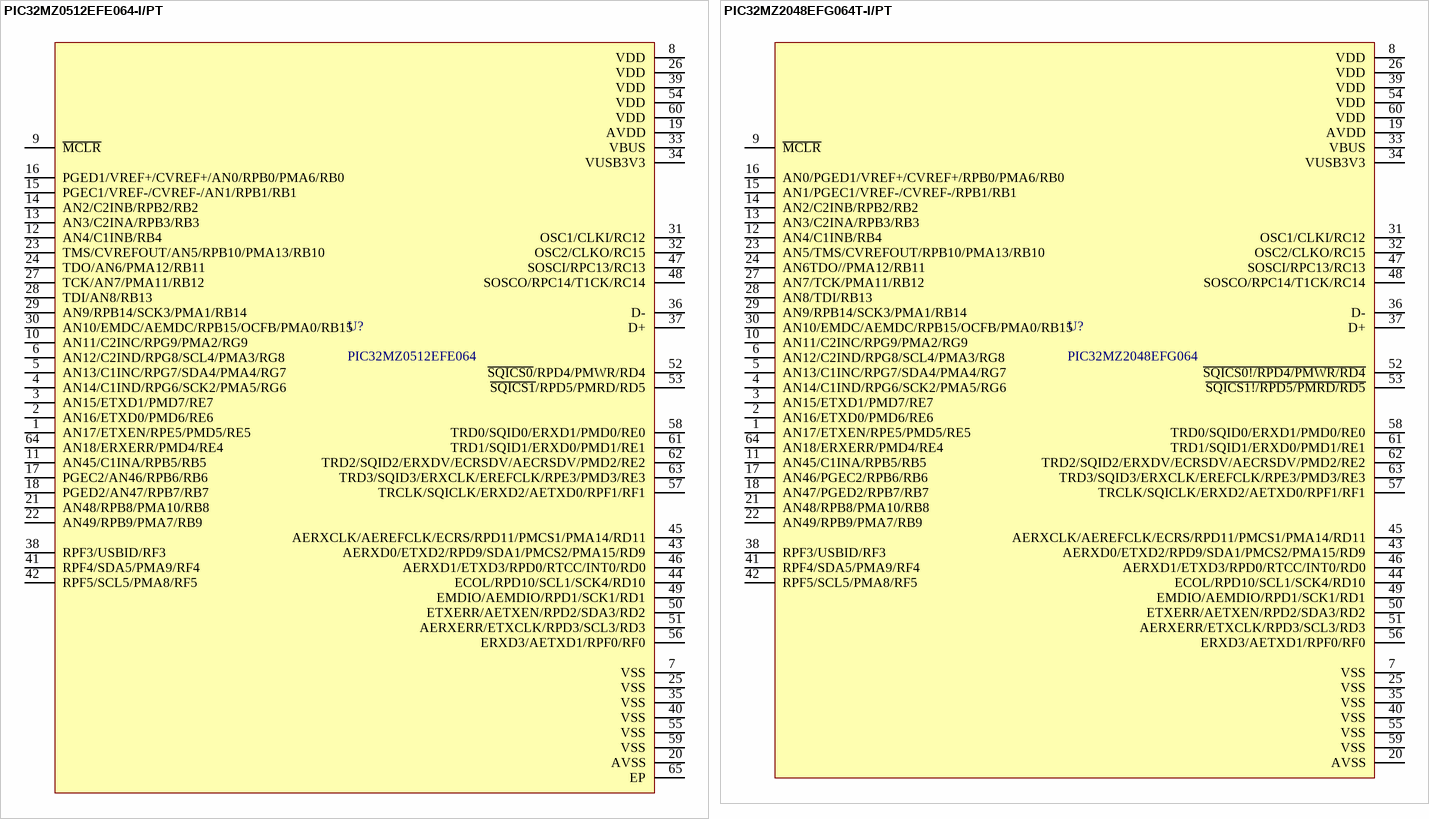
[diagram p2: symbols PIC32MZ0512EFE064-I/PT to PIC32MZ2048EFG064T-I/PT]

## PIC32MZ0512EFE064-I/PT
designator U?, comment PIC32MZ0512EFE064
32-bit Microcontrollers - MCU 32-BIT MCU 512KB FL 128KB RAM, No Crypto; MF: Microchip; MP: PIC32MZ2048EFG064T-I/PT; Price: None; Value: *; SnapEDA_Link: https://www.snapeda.com/parts/PIC32MZ2048EFG064T-I/PT/Microchip/view-part/565997/?ref=snap; Package: TQFP-64 Microchip; Availability: Unavailable
footprint QFN50P900X900X100-65N
pins: 1 AN17/ETXEN/RPE5/PMD5/RE5, 2 AN16/ETXD0/PMD6/RE6, 3 AN15/ETXD1/PMD7/RE7, 4 AN14/C1IND/RPG6/SCK2/PMA5/RG6, 5 AN13/C1INC/RPG7/SDA4/PMA4/RG7, 6 AN12/C2IND/RPG8/SCL4/PMA3/RG8, 7 VSS, 8 VDD, 9 ~{MCLR}, 10 AN11/C2INC/RPG9/PMA2/RG9, 11 AN45/C1INA/RPB5/RB5, 12 AN4/C1INB/RB4, 13 AN3/C2INA/RPB3/RB3, 14 AN2/C2INB/RPB2/RB2, 15 PGEC1/VREF-/CVREF-/AN1/RPB1/RB1, 16 PGED1/VREF+/CVREF+/AN0/RPB0/PMA6/RB0, 17 PGEC2/AN46/RPB6/RB6, 18 PGED2/AN47/RPB7/RB7, 19 AVDD, 20 AVSS, 21 AN48/RPB8/PMA10/RB8, 22 AN49/RPB9/PMA7/RB9, 23 TMS/CVREFOUT/AN5/RPB10/PMA13/RB10, 24 TDO/AN6/PMA12/RB11, 25 VSS, 26 VDD, 27 TCK/AN7/PMA11/RB12, 28 TDI/AN8/RB13, 29 AN9/RPB14/SCK3/PMA1/RB14, 30 AN10/EMDC/AEMDC/RPB15/OCFB/PMA0/RB15, 31 OSC1/CLKI/RC12, 32 OSC2/CLKO/RC15, 33 VBUS, 34 VUSB3V3, 35 VSS, 36 D-, 37 D+, 38 RPF3/USBID/RF3, 39 VDD, 40 VSS, 41 RPF4/SDA5/PMA9/RF4, 42 RPF5/SCL5/PMA8/RF5, 43 AERXD0/ETXD2/RPD9/SDA1/PMCS2/PMA15/RD9, 44 ECOL/RPD10/SCL1/SCK4/RD10, 45 AERXCLK/AEREFCLK/ECRS/RPD11/PMCS1/PMA14/RD11, 46 AERXD1/ETXD3/RPD0/RTCC/INT0/RD0, 47 SOSCI/RPC13/RC13, 48 SOSCO/RPC14/T1CK/RC14, 49 EMDIO/AEMDIO/RPD1/SCK1/RD1, 50 ETXERR/AETXEN/RPD2/SDA3/RD2, 51 AERXERR/ETXCLK/RPD3/SCL3/RD3, 52 ~{SQICS0}/RPD4/PMWR/RD4, 53 ~{SQICS1}/RPD5/PMRD/RD5, 54 VDD, 55 VSS, 56 ERXD3/AETXD1/RPF0/RF0, 57 TRCLK/SQICLK/ERXD2/AETXD0/RPF1/RF1, 58 TRD0/SQID0/ERXD1/PMD0/RE0, 59 VSS, 60 VDD, 61 TRD1/SQID1/ERXD0/PMD1/RE1, 62 TRD2/SQID2/ERXDV/ECRSDV/AECRSDV/PMD2/RE2, 63 TRD3/SQID3/ERXCLK/EREFCLK/RPE3/PMD3/RE3, 64 AN18/ERXERR/PMD4/RE4, 65 EP

## PIC32MZ2048EFG064T-I/PT
designator U?, comment PIC32MZ2048EFG064
PIC32MZ Microcontroller IC 32-Bit 200MHz 2MB (2M x 8) FLASH 64-TQFP (10x10); MF: Microchip; MP: PIC32MZ2048EFG064T-I/PT; Price: None; Value: *; SnapEDA_Link: https://www.snapeda.com/parts/PIC32MZ2048EFG064T-I/PT/Microchip/view-part/565997/?ref=snap; Package: TQFP-64 Microchip; Availability: Unavailable
footprint QFP-64
pins: 1 AN17/ETXEN/RPE5/PMD5/RE5, 2 AN16/ETXD0/PMD6/RE6, 3 AN15/ETXD1/PMD7/RE7, 4 AN14/C1IND/RPG6/SCK2/PMA5/RG6, 5 AN13/C1INC/RPG7/SDA4/PMA4/RG7, 6 AN12/C2IND/RPG8/SCL4/PMA3/RG8, 7 VSS, 8 VDD, 9 ~{MCLR}, 10 AN11/C2INC/RPG9/PMA2/RG9, 11 AN45/C1INA/RPB5/RB5, 12 AN4/C1INB/RB4, 13 AN3/C2INA/RPB3/RB3, 14 AN2/C2INB/RPB2/RB2, 15 AN1/PGEC1/VREF-/CVREF-/RPB1/RB1, 16 AN0/PGED1/VREF+/CVREF+/RPB0/PMA6/RB0, 17 AN46/PGEC2/RPB6/RB6, 18 AN47/PGED2/RPB7/RB7, 19 AVDD, 20 AVSS, 21 AN48/RPB8/PMA10/RB8, 22 AN49/RPB9/PMA7/RB9, 23 AN5/TMS/CVREFOUT/RPB10/PMA13/RB10, 24 AN6TDO//PMA12/RB11, 25 VSS, 26 VDD, 27 AN7/TCK/PMA11/RB12, 28 AN8/TDI/RB13, 29 AN9/RPB14/SCK3/PMA1/RB14, 30 AN10/EMDC/AEMDC/RPB15/OCFB/PMA0/RB15, 31 OSC1/CLKI/RC12, 32 OSC2/CLKO/RC15, 33 VBUS, 34 VUSB3V3, 35 VSS, 36 D-, 37 D+, 38 RPF3/USBID/RF3, 39 VDD, 40 VSS, 41 RPF4/SDA5/PMA9/RF4, 42 RPF5/SCL5/PMA8/RF5, 43 AERXD0/ETXD2/RPD9/SDA1/PMCS2/PMA15/RD9, 44 ECOL/RPD10/SCL1/SCK4/RD10, 45 AERXCLK/AEREFCLK/ECRS/RPD11/PMCS1/PMA14/RD11, 46 AERXD1/ETXD3/RPD0/RTCC/INT0/RD0, 47 SOSCI/RPC13/RC13, 48 SOSCO/RPC14/T1CK/RC14, 49 EMDIO/AEMDIO/RPD1/SCK1/RD1, 50 ETXERR/AETXEN/RPD2/SDA3/RD2, 51 AERXERR/ETXCLK/RPD3/SCL3/RD3, 52 ~{SQICS0!/RPD4/PMWR/RD4}, 53 ~{SQICS1!/RPD5/PMRD/RD5}, 54 VDD, 55 VSS, 56 ERXD3/AETXD1/RPF0/RF0, 57 TRCLK/SQICLK/ERXD2/AETXD0/RPF1/RF1, 58 TRD0/SQID0/ERXD1/PMD0/RE0, 59 VSS, 60 VDD, 61 TRD1/SQID1/ERXD0/PMD1/RE1, 62 TRD2/SQID2/ERXDV/ECRSDV/AECRSDV/PMD2/RE2, 63 TRD3/SQID3/ERXCLK/EREFCLK/RPE3/PMD3/RE3, 64 AN18/ERXERR/PMD4/RE4

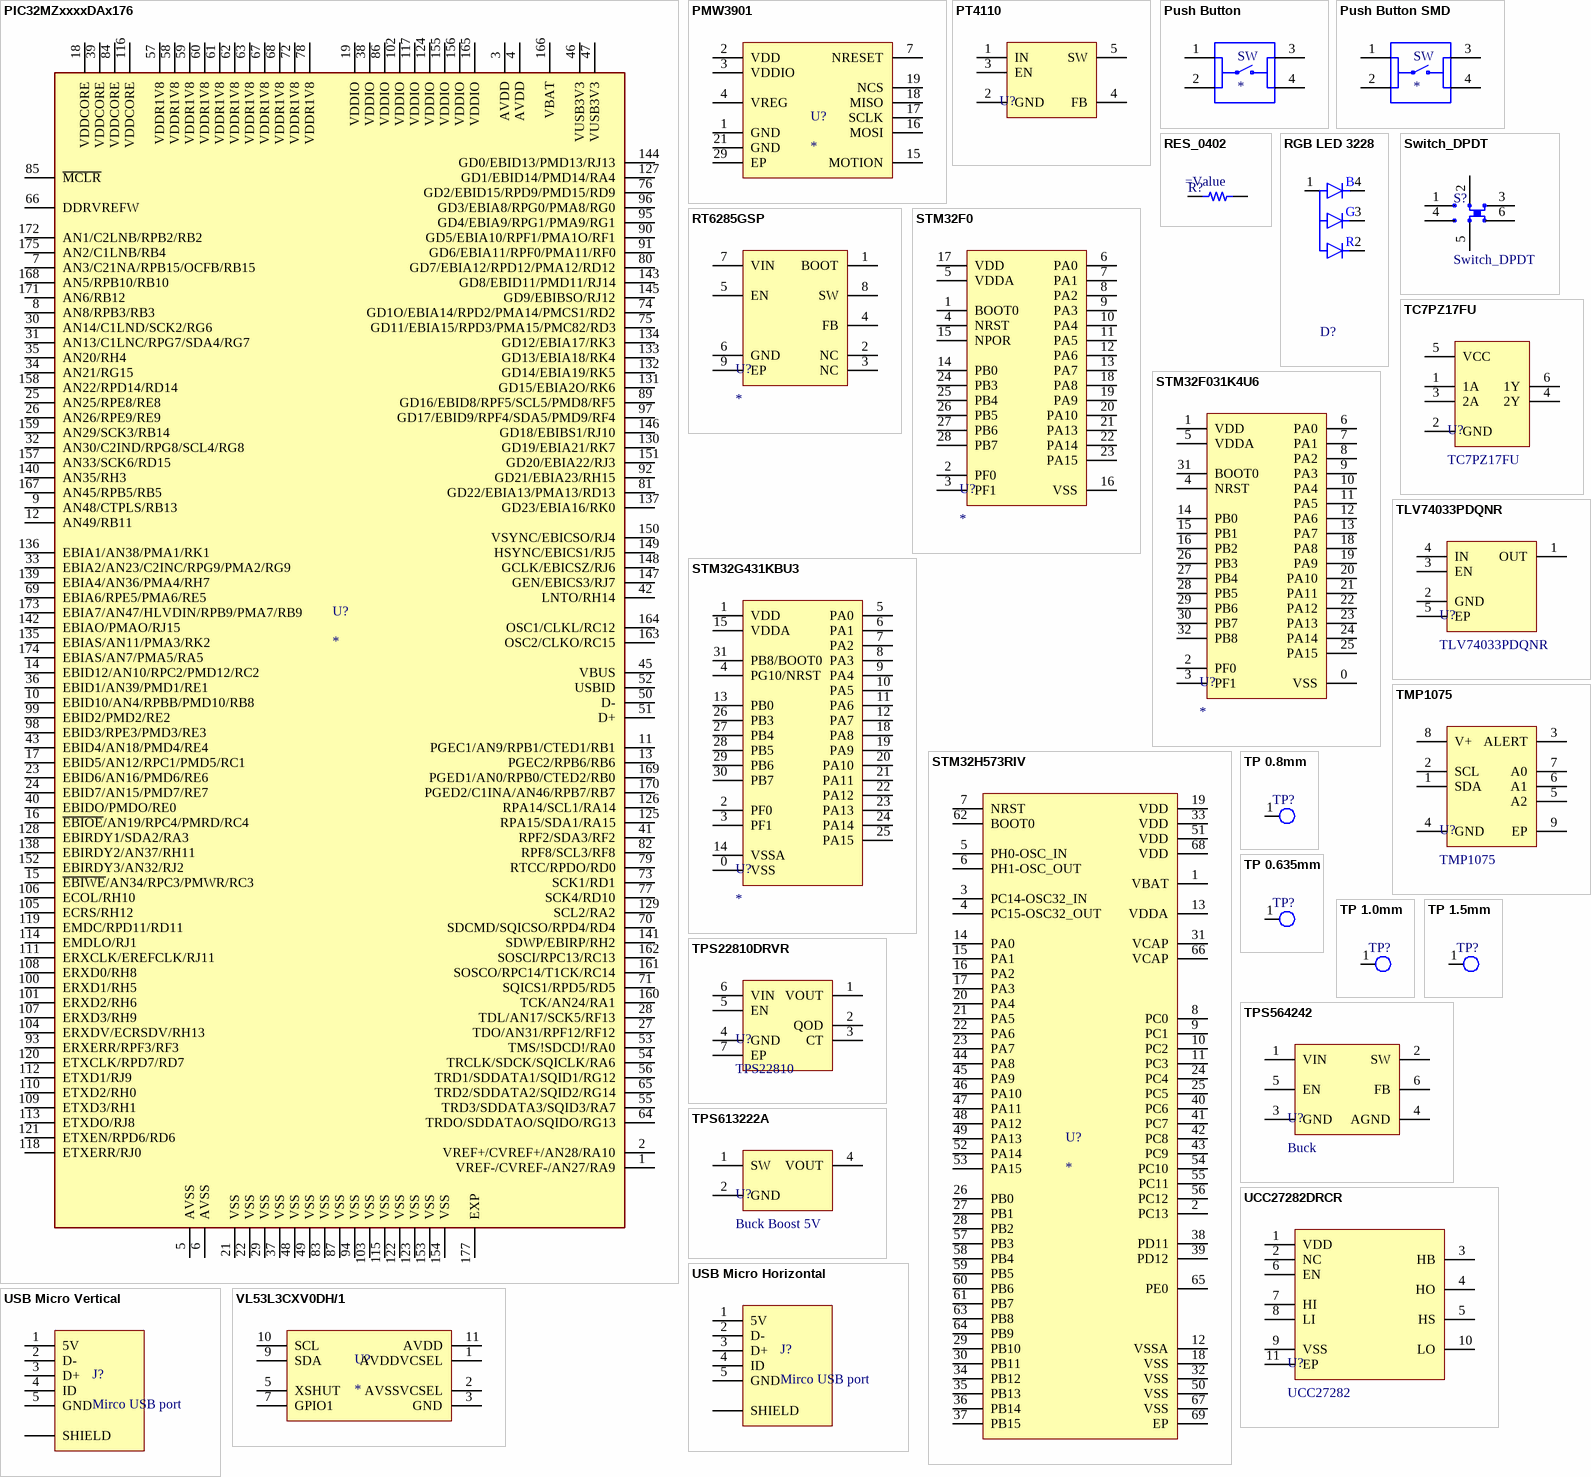
[diagram p3: symbols PIC32MZxxxxDAx176 to VL53L3CXV0DH/1]

## PIC32MZxxxxDAx176
designator U?
MIPS32Â® microAptivâ„¢ PICÂ® 32MZ DA Microcontroller IC 32-Bit 200MHz 2MB _2M x 8_ FLASH 176-LQFP _20x20_; MP: PIC32MZ2064DAH176-I/2J; MF: Microchip; Package: LQFP-176 Microchip; SnapEDA_Link: https://www.snapeda.com/parts/PIC32MZ2064DAH176-I/2J/Microchip/view-part/880359/?ref=snap; Availability: Unavailable; Price: None; Value: *
footprint QFP40P2200X2200X160-177N
pins: 1 VREF-/CVREF-/AN27/RA9, 2 VREF+/CVREF+/AN28/RA10, 3 AVDD, 4 AVDD, 5 AVSS, 6 AVSS, 7 AN3/C21NA/RPB15/OCFB/RB15, 8 AN8/RPB3/RB3, 9 AN48/CTPLS/RB13, 10 EBID10/AN4/RPBB/PMD10/RB8, 11 PGEC1/AN9/RPB1/CTED1/RB1, 12 AN49/RB11, 13 PGEC2/RPB6/RB6, 14 EBID12/AN10/RPC2/PMD12/RC2, 15 ~{EBIWE}/AN34/RPC3/PMWR/RC3, 16 ~{EBIOE}/AN19/RPC4/PMRD/RC4, 17 EBID5/AN12/RPC1/PMD5/RC1, 18 VDDCORE, 19 VDDIO, 21 VSS, 22 VSS, 23 EBID6/AN16/PMD6/RE6, 24 EBID7/AN15/PMD7/RE7, 25 AN25/RPE8/RE8, 26 AN26/RPE9/RE9, 27 TDO/AN31/RPF12/RF12, 28 TDL/AN17/SCK5/RF13, 29 VSS, 30 AN14/C1LND/SCK2/RG6, 31 AN13/C1LNC/RPG7/SDA4/RG7, 32 AN30/C2IND/RPG8/SCL4/RG8, 33 EBIA2/AN23/C2INC/RPG9/PMA2/RG9, 34 AN21/RG15, 35 AN20/RH4, 36 EBID1/AN39/PMD1/RE1, 37 VSS, 38 VDDIO, 39 VDDCORE, 40 EBIDO/PMDO/RE0, 41 RPF2/SDA3/RF2, 42 LNTO/RH14, 43 EBID4/AN18/PMD4/RE4, 45 VBUS, 46 VUSB3V3, 47 VUSB3V3, 48 VSS, 49 VSS, 50 D-, 51 D+, 52 USBID, 53 TMS/!SDCD!/RA0, 54 TRCLK/SDCK/SQICLK/RA6, 55 TRD3/SDDATA3/SQID3/RA7, 56 TRD1/SDDATA1/SQID1/RG12, 57 VDDR1V8, 58 VDDR1V8, 59 VDDR1V8, 60 VDDR1V8, 61 VDDR1V8, 62 VDDR1V8, 63 VDDR1V8, 64 TRDO/SDDATAO/SQIDO/RG13, 65 TRD2/SDDATA2/SQID2/RG14, 66 DDRVREFW, 67 VDDR1V8, 68 VDDR1V8, 69 EBIA6/RPE5/PMA6/RE5, 70 SDCMD/SQICSO/RPD4/RD4, 71 SQICS1/RPD5/RD5, 72 VDDR1V8, 73 SCK1/RD1, 74 GD1O/EBIA14/RPD2/PMA14/PMCS1/RD2, 75 GD11/EBIA15/RPD3/PMA15/PMC82/RD3, 76 GD2/EBID15/RPD9/PMD15/RD9, 77 SCK4/RD10, 78 VDDR1V8, 79 RTCC/RPDO/RD0, 80 GD7/EBIA12/RPD12/PMA12/RD12, 81 GD22/EBIA13/PMA13/RD13, 82 RPF8/SCL3/RF8, 83 VSS, 84 VDDCORE, 85 ~{MCLR}, 86 VDDIO, 87 VSS, 89 GD16/EBID8/RPF5/SCL5/PMD8/RF5, 90 GD5/EBIA10/RPF1/PMA1O/RF1, 91 GD6/EBIA11/RPF0/PMA11/RF0, 92 GD21/EBIA23/RH15, 93 ERXERR/RPF3/RF3, 94 VSS, 95 GD4/EBIA9/RPG1/PMA9/RG1, 96 GD3/EBIA8/RPG0/PMA8/RG0, 97 GD17/EBID9/RPF4/SDA5/PMD9/RF4, 98 EBID3/RPE3/PMD3/RE3, 99 EBID2/PMD2/RE2, 100 ERXD1/RH5, 101 ERXD2/RH6, 102 VDDIO, 103 VSS, 104 ERXDV/ECRSDV/RH13, 105 ECRS/RH12, 106 ECOL/RH10, 107 ERXD3/RH9, 108 ERXD0/RH8, 109 ETXD3/RH1, 110 ETXD2/RH0, 111 ERXCLK/EREFCLK/RJ11, 112 ETXD1/RJ9, 113 ETXDO/RJ8, 114 EMDLO/RJ1, 115 VSS, 116 VDDCORE, 117 VDDIO, 118 ETXERR/RJ0, 119 EMDC/RPD11/RD11, 120 ETXCLK/RPD7/RD7, 121 ETXEN/RPD6/RD6, 122 VSS, 123 VSS, 124 VDDIO, 125 RPA15/SDA1/RA15, 126 RPA14/SCL1/RA14, 127 GD1/EBID14/PMD14/RA4, 128 EBIRDY1/SDA2/RA3, 129 SCL2/RA2, 130 GD19/EBIA21/RK7, 131 GD15/EBIA2O/RK6, 132 GD14/EBIA19/RK5, 133 GD13/EBIA18/RK4, 134 GD12/EBIA17/RK3, 135 EBIAS/AN11/PMA3/RK2, 136 EBIA1/AN38/PMA1/RK1, 137 GD23/EBIA16/RK0, 138 EBIRDY2/AN37/RH11, 139 EBIA4/AN36/PMA4/RH7, 140 AN35/RH3, 141 SDWP/EBIRP/RH2, 142 EBIAO/PMAO/RJ15, 143 GD8/EBID11/PMD11/RJ14, 144 GD0/EBID13/PMD13/RJ13, 145 GD9/EBIBSO/RJ12, 146 GD18/EBIBS1/RJ10, 147 GEN/EBICS3/RJ7, 148 GCLK/EBICSZ/RJ6, 149 HSYNC/EBICS1/RJ5, 150 VSYNC/EBICSO/RJ4, 151 GD20/EBIA22/RJ3, 152 EBIRDY3/AN32/RJ2, 153 VSS, 154 VSS, 155 VDDIO, 156 VDDIO, 157 AN33/SCK6/RD15, 158 AN22/RPD14/RD14, 159 AN29/SCK3/RB14, 160 TCK/AN24/RA1, 161 SOSCO/RPC14/T1CK/RC14, 162 SOSCI/RPC13/RC13, 163 OSC2/CLKO/RC15, 164 OSC1/CLKL/RC12, 165 VDDIO, 166 VBAT, 167 AN45/RPB5/RB5, 168 AN5/RPB10/RB10, 169 PGED1/AN0/RPB0/CTED2/RB0, 170 PGED2/C1INA/AN46/RPB7/RB7, 171 AN6/RB12, 172 AN1/C2LNB/RPB2/RB2, 173 EBIA7/AN47/HLVDIN/RPB9/PMA7/RB9, 174 EBIAS/AN7/PMA5/RA5, 175 AN2/C1LNB/RB4, 177 EXP

## PMW3901
designator U?
PMW3901. Optical Flow Sensor
footprint PMW3901
pins: 1 GND, 2 VDD, 3 VDDIO, 4 VREG, 7 NRESET, 15 MOTION, 16 MOSI, 17 SCLK, 18 MISO, 19 NCS, 21 GND, 29 EP

## PT4110
designator U?
LED Backlight Driver
footprint SOT-89-5
pins: 1 IN, 2 GND, 3 EN, 4 FB, 5 SW

## Push Button
designator SW
50 mA SPST Round Actuator 160 Gram Force Tactile Pushbutton Switch; MP: 1825910-2; Contact_Current_Rating: 50 mA; MF: TE Connectivity; Configuration_Pole-Throw: Single Pole - Single Throw; Availability: Unavailable; Value: *; Package: None; SnapEDA_Link: https://www.snapeda.com/parts/1825910-2/TE%20Connectivity%20ALCOSWITCH%20Switches/view-part/278983/?ref=snap; TE_purchase_URL: https://www.te.com/usa-en/product-1825910-2.html?te_bu=Cor&te_type=disp&te_campaign=seda_glo_cor-seda-global-disp-prtnr-fy19-seda-model-bom-cta_sma-317_1&elqCampaignId=32493; EU_RoHS_Compliance: Compliant; Price: None
footprint PushButton (Through hole PushButton)
pins: 1, 2, 3, 4

## Push Button SMD
designator SW
50 mA SPST Round Actuator 160 Gram Force Tactile Pushbutton Switch; MP: 1825910-2; Contact_Current_Rating: 50 mA; MF: TE Connectivity; Configuration_Pole-Throw: Single Pole - Single Throw; Availability: Unavailable; Value: *; Package: None; SnapEDA_Link: https://www.snapeda.com/parts/1825910-2/TE%20Connectivity%20ALCOSWITCH%20Switches/view-part/278983/?ref=snap; TE_purchase_URL: https://www.te.com/usa-en/product-1825910-2.html?te_bu=Cor&te_type=disp&te_campaign=seda_glo_cor-seda-global-disp-prtnr-fy19-seda-model-bom-cta_sma-317_1&elqCampaignId=32493; EU_RoHS_Compliance: Compliant; Price: None
footprint SMD button
pins: 1, 2, 3, 4

## RES_0402
designator R?
RES 0402
footprint RES_0402
pins: 1, 2

## RGB LED 3228
designator D?
DIODE LED RGB DIFFUSED 4LCC SMD CLV1L-FKB-CJ1N1E1BB7B3B3; Manufacturer: Cree; ComponentLink2Description: Datasheet; Temperature: -40°C to +100°C; Package: LED_3MM2X2MM8; Supplier 2: Mouser; Price: 0.203999996142; Supplier 1: Digi-Key; ComponentLink1URL: https://upverter.com/upn/revision/9d0b31f7b1982705/; Supplier Part Number 2: 941-CLV1LFKBC7673673; Supplier Part Number 1: CLV1L-FKB-CHMMQEHBB7673673-ND; ComponentLink1Description: Upverter; ComponentLink2URL: http://www.cree.com/~/media/Files/Cree/LED-Components-and-Modules/HB/Data-Sheets/CLV1L-FKB-1238.pdf; RoHS: TRUE; Mouser Part Number: 941-CLV1LFKBC7673673; Temperature Range High: +100°C; Digikey Description: DIODE LED RGB DIFFUSED 4LCC SMD; Digikey Part Number: CLV1L-FKB-CHMMQEHBB7673673-ND; Lead Free: yes; Temperature Range Low: -40°C
footprint CreeLED 3228
pins: 1 A, 2 BLUE(C), 3 BLUE(C), 4 BLUE(C)
text: B; G; R

## RT6285GSP
designator U?
Buck, Adj, 5A
footprint 8-SOIC Richtek
pins: 1 BOOT, 2 NC, 3 NC, 4 FB, 5 EN, 6 GND, 7 VIN, 8 SW, 9 EP

## STM32F0
designator U?
MCU UFQFPN-28
footprint QFN50P400X400X60-28N
pins: 1 BOOT0, 2 PF0, 3 PF1, 4 NRST, 5 VDDA, 6 PA0, 7 PA1, 8 PA2, 9 PA3, 10 PA4, 11 PA5, 12 PA6, 13 PA7, 14 PB0, 15 NPOR, 16 VSS, 17 VDD, 18 PA8, 19 PA9, 20 PA10, 21 PA13, 22 PA14, 23 PA15, 24 PB3, 25 PB4, 26 PB5, 27 PB6, 28 PB7

## STM32F031K4U6
designator U?
MCU UFQFPN-32
footprint QFN50P400X400X60-32N - duplicate
pins: 0 VSS, 1 VDD, 2 PF0, 3 PF1, 4 NRST, 5 VDDA, 6 PA0, 7 PA1, 8 PA2, 9 PA3, 10 PA4, 11 PA5, 12 PA6, 13 PA7, 14 PB0, 15 PB1, 16 PB2, 17 VDD, 18 PA8, 19 PA9, 20 PA10, 21 PA11, 22 PA12, 23 PA13, 24 PA14, 25 PA15, 26 PB3, 27 PB4, 28 PB5, 29 PB6, 30 PB7, 31 BOOT0, 32 PB8

## STM32G431KBU3
designator U?
MCU UFQFPN-32
footprint QFN50P400X400X60-32N - duplicate
pins: 0 VSS, 1 VDD, 2 PF0, 3 PF1, 4 PG10/NRST, 5 PA0, 6 PA1, 7 PA2, 8 PA3, 9 PA4, 10 PA5, 11 PA6, 12 PA7, 13 PB0, 14 VSSA, 15 VDDA, 16 VSS, 17 VDD, 18 PA8, 19 PA9, 20 PA10, 21 PA11, 22 PA12, 23 PA13, 24 PA14, 25 PA15, 26 PB3, 27 PB4, 28 PB5, 29 PB6, 30 PB7, 31 PB8/BOOT0, 32 VSS

## STM32H573RIV
designator U?
footprint 68-VFQFPN
pins: 1 VBAT, 2 PC13, 3 PC14-OSC32_IN, 4 PC15-OSC32_OUT, 5 PH0-OSC_IN, 6 PH1-OSC_OUT, 7 NRST, 8 PC0, 9 PC1, 10 PC2, 11 PC3, 12 VSSA, 13 VDDA, 14 PA0, 15 PA1, 16 PA2, 17 PA3, 18 VSS, 19 VDD, 20 PA4, 21 PA5, 22 PA6, 23 PA7, 24 PC4, 25 PC5, 26 PB0, 27 PB1, 28 PB2, 29 PB10, 30 PB11, 31 VCAP, 32 VSS, 33 VDD, 34 PB12, 35 PB13, 36 PB14, 37 PB15, 38 PD11, 39 PD12, 40 PC6, 41 PC7, 42 PC8, 43 PC9, 44 PA8, 45 PA9, 46 PA10, 47 PA11, 48 PA12, 49 PA13, 50 VSS, 51 VDD, 52 PA14, 53 PA15, 54 PC10, 55 PC11, 56 PC12, 57 PB3, 58 PB4, 59 PB5, 60 PB6, 61 PB7, 62 BOOT0, 63 PB8, 64 PB9, 65 PE0, 66 VCAP, 67 VSS, 68 VDD, 69 EP

## Switch_DPDT
designator S?
SWITCH SLIDE DPDT 10A
footprint Switch_DPDT
pins: 1, 2 COM1, 3, 4, 5 COM2, 6

## TC7PZ17FU
designator U?
2x Buffer
footprint SOT-363
pins: 1 1A, 2 GND, 3 2A, 4 2Y, 5 VCC, 6 1Y

## TLV74033PDQNR
designator U?
3.3V LDO
footprint XDFN-4
pins: 1 OUT "Desc1", 2 GND "Desc1", 3 EN "Desc1", 4 IN "Desc1", 5 EP "Desc1"

## TMP1075
designator U?
I2C TEMP SENSOR
footprint 8-WSON_2x2_0.5mm
pins: 1 SDA, 2 SCL, 3 ALERT, 4 GND, 5 A2, 6 A1, 7 A0, 8 V+, 9 EP

## TP 0.8mm
designator TP?, comment 0.8mm  (value not drawn)  (no BOM)
Test point
footprint TP  0.8mm
pins: 1 TP

## TP 0.635mm
designator TP?, comment 0.635mm  (value not drawn)  (no BOM)
Test point
footprint TP  0.635mm
pins: 1 TP

## TP 1.0mm
designator TP?, comment 1.0mm  (value not drawn)  (no BOM)
Test point
footprint TP  1.0mm
pins: 1 TP

## TP 1.5mm
designator TP?, comment 1.5mm  (value not drawn)  (no BOM)
Test point
footprint TP 1.5mm
pins: 1 TP

## TPS22810DRVR
designator U?, comment TPS22810
Load switch TPS22810DRVR
footprint 6-WSON_2x2_0.65mm
pins: 1 VOUT "Desc1", 2 QOD "Desc1", 3 CT "Desc1", 4 GND "Desc1", 5 EN "Desc1", 6 VIN "Desc1", 7 EP "Desc1"

## TPS564242
designator U?, comment Buck
Buck 6A TPS564242
footprint SOT563_TI
pins: 1 VIN, 2 SW, 3 GND, 4 AGND, 5 EN, 6 FB

## TPS613222A
designator U?, comment Buck Boost 5V
ADJ step down Buck
footprint TI SOT-23-5 DBV (SOT23, 5-Leads, Body 2.90x2.80mm, Pitch 0.95mm, IPC Medium Density)
pins: 1 SW, 2 GND, 4 VOUT

## UCC27282DRCR
designator U?, comment UCC27282
3-A, 120-V half bridge gate driver with 5-V UVLO, interlock and enable 10-VSON -40 to 125; MF: Texas Instruments; MP: UCC27282DRCR; Texas_Instruments-Purchase-URL: https://snapeda.com/shop?store=Texas+Instruments&id=3625400; Price: None; Availability: Warning; Package: VSON-10 Texas Instruments; SnapEDA_Link: https://www.snapeda.com/parts/UCC27282DRCR/Texas%20Instruments/view-part/3625400/?ref=snap; DigiKey-Purchase-URL: https://snapeda.com/shop?store=DigiKey&id=3625400; Value: *
footprint VSON-10
pins: 1 VDD, 2 NC, 3 HB, 4 HO, 5 HS, 6 EN, 7 HI, 8 LI, 9 VSS, 10 LO, 11 EP

## USB Micro Horizontal
designator J?, comment Mirco USB port
USB - micro B USB 2.0 Receptacle Connector 5 Position Through Hole; MF: Amphenol ICC; MP: 10118194-0001LF; Package: None; Price: None; Availability: Unavailable; SnapEDA_Link: https://www.snapeda.com/parts/10118194-0001LF/Amphenol%20FCI/view-part/1413308/?ref=snap; Value: *
footprint AMPHENOL_10118194-0001LF
pins: 1 5V, 2 D-, 3 D+, 4 ID, 5 GND, S1 SHIELD, S2 SHIELD

## USB Micro Vertical
designator J?, comment Mirco USB port
USB - micro B USB 2.0 Receptacle Connector 5 Position Through Hole; MF: Amphenol ICC; MP: 10118194-0001LF; Package: None; Price: None; Availability: Unavailable; SnapEDA_Link: https://www.snapeda.com/parts/10118194-0001LF/Amphenol%20FCI/view-part/1413308/?ref=snap; Value: *
footprint GCT_USB3131-30-0230-A_REVB - duplicate
pins: 1 5V, 2 D-, 3 D+, 4 ID, 5 GND, S1 SHIELD, S2 SHIELD

## VL53L3CXV0DH/1
designator U?
Optical Sensor 118.110 (3m) I2C Output; MF: STMicroelectronics; MP: VL53L3CXV0DH/1; Value: *; Availability: Unavailable; Package: None; SnapEDA_Link: https://www.snapeda.com/parts/VL53L3CXV0DH/1/STMicroelectronics/view-part/4775788/?ref=snap; Price: None
footprint XDCR_VL53L3CXV0DH/1
pins: 1 AVDDVCSEL, 2 AVSSVCSEL, 3 GND (power), 4 GND (power), 5 XSHUT, 6 GND (power), 7 GPIO1, 9 SDA, 10 SCL, 11 AVDD, 12 GND

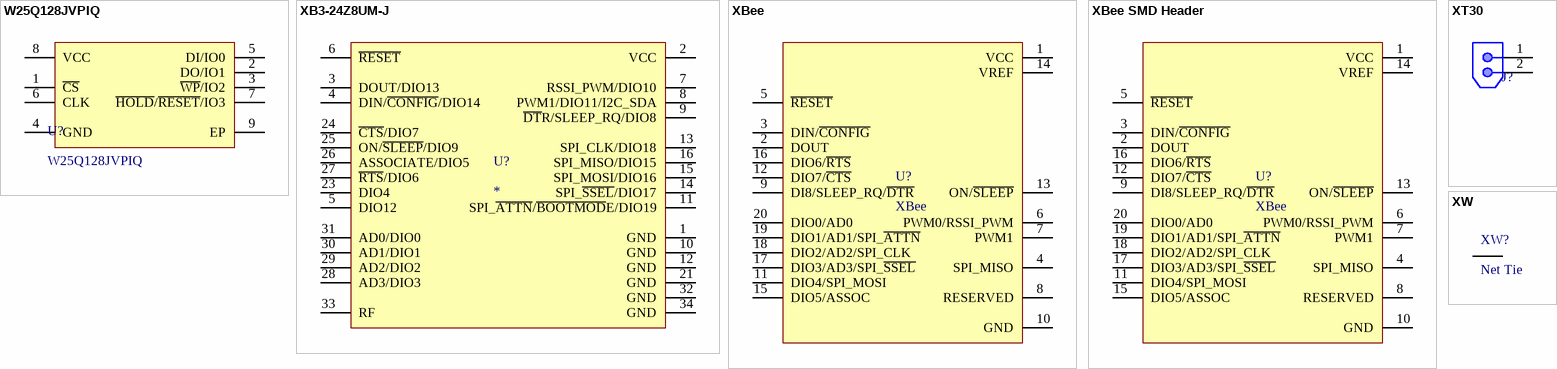
[diagram p4: symbols W25Q128JVPIQ to XW]

## W25Q128JVPIQ
designator U?
Quad SPI FLASH 16MB
footprint WSON-8 6x5 Winbond
pins: 1 ~{CS} "Desc1", 2 DO/IO1 "Desc1", 3 ~{WP}/IO2 "Desc1", 4 GND "Desc1", 5 DI/IO0 "Desc1", 6 CLK "Desc1", 7 ~{HOLD}/~{RESET}/IO3 "Desc1", 8 VCC "Desc1", 9 EP "Desc1"

## XB3-24Z8UM-J
designator U?
802.15.4 Zigbee Transceiver Module 2.4GHz Antenna Not Included, U.FL Surface Mount; MP: XB3-24Z8UM-J; MF: Digi International; Availability: Unavailable; Value: *; SnapEDA_Link: https://www.snapeda.com/parts/XB3-24Z8UM-J/Digi%20International/view-part/2762908/?ref=snap; Price: None; Package: SMD-34 Digi International
footprint XCVR_XB3-24Z8UM-J
pins: 1 GND, 2 VCC, 3 DOUT/DIO13, 4 DIN/~{CONFIG}/DIO14, 5 DIO12, 6 ~{RESET}, 7 RSSI_PWM/DIO10, 8 PWM1/DIO11/I2C_SDA, 9 ~{DT}R/SLEEP_RQ/DIO8, 10 GND, 11 SPI_~{ATTN}/~{BOOTMOD}E/DIO19, 12 GND, 13 SPI_CLK/DIO18, 14 SPI_~{SSEL}/DIO17, 15 SPI_MOSI/DIO16, 16 SPI_MISO/DIO15, 21 GND, 23 DIO4, 24 ~{CTS}/DIO7, 25 ON/~{SLEEP}/DIO9, 26 ASSOCIATE/DIO5, 27 ~{RTS}/DIO6, 28 AD3/DIO3, 29 AD2/DIO2, 30 AD1/DIO1, 31 AD0/DIO0, 32 GND, 33 RF, 34 GND

## XBee
designator U?
802.15.4 Transceiver Module 2.4GHz Antenna Not Included, U.FL Through Hole
footprint XBee
pins: 1 VCC (power), 2 DOUT, 3 DIN/~{CONFIG}, 4 SPI_MISO, 5 ~{RESET}, 6 PWM0/RSSI_PWM, 7 PWM1, 8 RESERVED, 9 DI8/SLEEP_RQ/~{DTR}, 10 GND (power), 11 DIO4/SPI_MOSI, 12 DIO7/~{CTS}, 13 ON/~{SLEEP}, 14 VREF (power), 15 DIO5/ASSOC, 16 DIO6/~{RTS}, 17 DIO3/AD3/SPI_~{SSEL}, 18 DIO2/AD2/SPI_CLK, 19 DIO1/AD1/SPI_~{ATTN}, 20 DIO0/AD0

## XBee SMD Header
designator U?, comment XBee
802.15.4 Transceiver Module 2.4GHz Antenna Not Included, U.FL Through Hole
footprint XBee -SMD Header
pins: 1 VCC (power), 2 DOUT, 3 DIN/~{CONFIG}, 4 SPI_MISO, 5 ~{RESET}, 6 PWM0/RSSI_PWM, 7 PWM1, 8 RESERVED, 9 DI8/SLEEP_RQ/~{DTR}, 10 GND (power), 11 DIO4/SPI_MOSI, 12 DIO7/~{CTS}, 13 ON/~{SLEEP}, 14 VREF (power), 15 DIO5/ASSOC, 16 DIO6/~{RTS}, 17 DIO3/AD3/SPI_~{SSEL}, 18 DIO2/AD2/SPI_CLK, 19 DIO1/AD1/SPI_~{ATTN}, 20 DIO0/AD0

## XT30
designator J?
XT30
footprint XT30
pins: 1, 2

## XW
designator XW?, comment Net Tie
MF: Texas Instruments; MP: UCC27282DRCR; Texas_Instruments-Purchase-URL: https://snapeda.com/shop?store=Texas+Instruments&id=3625400; Price: None; Availability: Warning; Package: VSON-10 Texas Instruments; SnapEDA_Link: https://www.snapeda.com/parts/UCC27282DRCR/Texas%20Instruments/view-part/3625400/?ref=snap; DigiKey-Purchase-URL: https://snapeda.com/shop?store=DigiKey&id=3625400; Value: *
footprint XW
pins: 1, 2